# Altium schematic symbol library node_connection.SchLib: 1 symbol
Pins are listed as number, name and electrical type; pins without a type are passive.

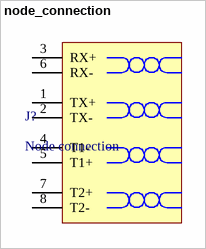
[diagram p0: symbol node_connection]

## node_connection
designator J?, comment Node connection
footprint node_connection
pins: 1 TX+, 2 TX-, 3 RX+, 4 T1-, 5 T1+, 6 RX-, 7 T2+, 8 T2-